# EAGLE library part CMMI (library nw2s)
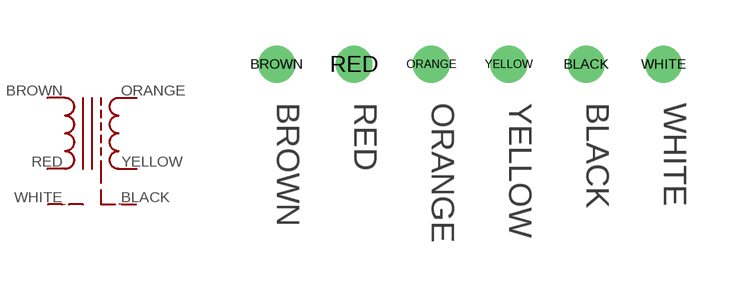
[diagram p18: symbol with the pads of CMMI-WIRE; footprint CMMI-WIRE]

Designator prefix -

## CMMI  [CMMI-WIRE]
BLACK  BLACK
BROWN  BROWN
ORANGE  ORANGE
RED  RED
WHITE  WHITE
YELLOW  YELLOW

## Footprint CMMI-WIRE (pad centres in mm)
drill 0.7: BLACK 3.81,0; BROWN -6.35,0; ORANGE -1.27,0; RED -3.81,0; WHITE 6.35,0; YELLOW 1.27,0